# EAGLE library part MOD_JACK (library connectors)
8P8C Ethernet Mod Jack
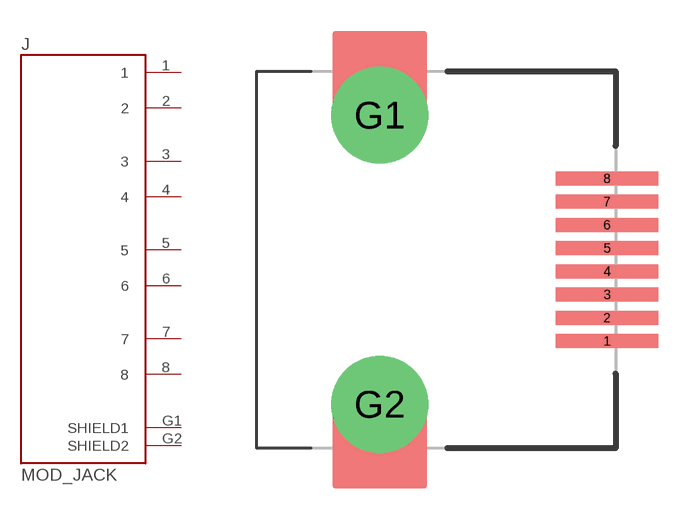
[diagram p13: symbol with the pads of MOD_8P8C; footprint MOD_8P8C]

Designator prefix J

## MOD_JACK (MF: Wurth), MOD_JACK-634008 (MF: Wurth; MPN: 634008149821; SHIELDED: YES; TABS: NO)  [MOD_8P8C]
1  1
2  2
3  3
4  4
5  5
6  6
7  7
8  8
G1  SHIELD1
G2  SHIELD2

## Footprint MOD_8P8C (pad centres in mm)
Shielded, 8p8c modular jack, no LED's or tabs
smd 4.5 x 0.61: 1 7.505,-3.57; 2 7.505,-2.55; 3 7.505,-1.53; 4 7.505,-0.51; 5 7.505,0.51; 6 7.505,1.53; 7 7.505,2.55; 8 7.505,3.57
drill 3.251: G1 -2.475,6.35; G2 -2.475,-6.35